# Altium schematic symbol library Schlib1.SchLib: 11 symbols
Pins are listed as number, name and electrical type; pins without a type are passive.

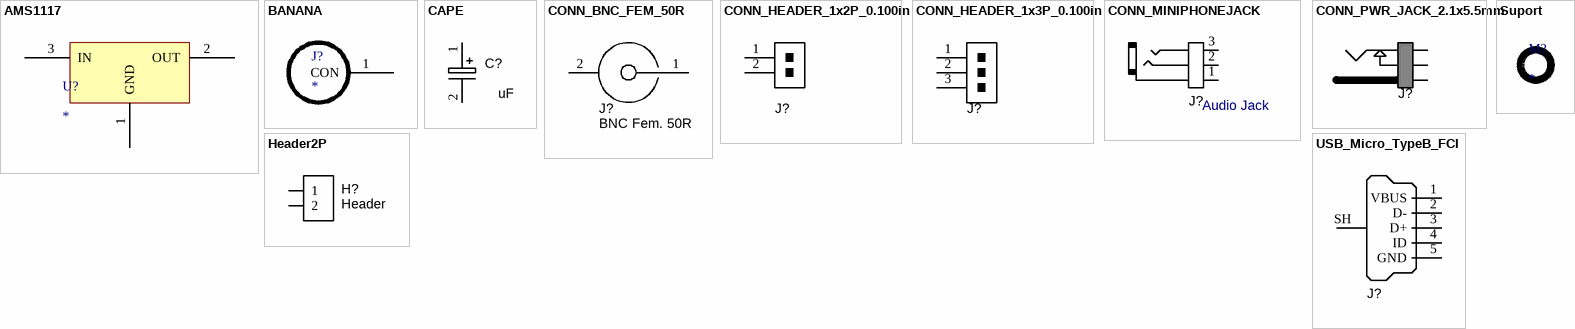
[diagram p0: symbols AMS1117 to USB_Micro_TypeB_FCI]

## AMS1117
designator U?
Voltage Regulator
footprint SOT223 (SOT223 /SC-73)
pins: 1 GND, 2 OUT, 3 IN

## BANANA
designator J?
Female Connector
footprint Banana (Female)
pins: 1 CON

## CAPE
designator C?, comment uF
Value: uF
footprint Capacitor_E
pins: 1, 2

## CONN_BNC_FEM_50R
designator J?, comment BNC Fem. 50R
Connector BNC 50 Ohm right-angle PCB mounted; Impedance: 50 Ohm; Ratings: 9400pF; 1500V; SCDType: undef; Category: Connectors; Mounting Type: Through Hole; ComponentLink1URL: http://www.te.com/commerce/DocumentDelivery/DDEController?Action=srchrtrv&DocNm=5413515&DocType=Customer+Drawing&DocLang=English; ComponentLink1Description: TE Datasheet
footprint CONN_BNC
pins: 1, 2

## CONN_HEADER_1x2P_0.100in
designator J?  (value not drawn)
Pin Header, THT, Single-row, 2.54mm pitch; Pitch: 0.100" (2.54mm); Value: Single-row, 3 positions; QtyOverride: 0.1; SCDType: undef; Category: Connectors; Mounting Type: Through Hole; Terminal Block Type: Header, Male Pins, Single; Package / Case: Pin header; 2.54mm pitch
footprint 1x2POS_HEADER (Connector Header, Single-row 3-position, 0.100" pitch)
pins: 1, 2

## CONN_HEADER_1x3P_0.100in
designator J?  (value not drawn)
Pin Header, THT, Single-row, 2.54mm pitch; Manufacturer 1: 3M; Manufacturer Part Number 1: 929647-09-36-I; Pitch: 0.100" (2.54mm); Value: Single-row, 3 positions; QtyOverride: 0.1; SCDType: undef; Category: Connectors; Mounting Type: Through Hole; Terminal Block Type: Header, Male Pins, Single; Package / Case: Pin header; 2.54mm pitch; Supplier 1: Digi-Key; Supplier Part Number 1: 929647-09-36-ND
footprint 1x3POS_HEADER (Connector Header, Single-row 3-position, 0.100" pitch)
pins: 1, 2, 3

## CONN_MINIPHONEJACK
designator J?, comment Audio Jack
Stereo phone jack mini; SCDType: undef; Material: Plastic, metal
footprint CONN_AUDIO
pins: 1 Base, 2 Middle, 3 TIP

## CONN_PWR_JACK_2.1x5.5mm
designator J?
footprint CONN_PWR_JACK_2.1x5.5mm (Power Connector, 2.1mm ID, 5.5mm OD)
pins: 1, 2, 3

## Header2P
designator H?, comment Header  (no BOM)
Header, 2-pin
footprint HDR1X2 (Connector; Header; 2 Position)
pins: 1, 2

## Suport
designator M?
footprint Support

## USB_Micro_TypeB_FCI
designator J?, comment USB Micro Type B (recommended if hand soldering)  (value not drawn)
Connector SMD-THD USB Micro Type B middle mount; Manufacturer 1: FCI; Manufacturer Part Number 1: 10103593-0001LF; SCDType: undef; Package / Case: SMD/THD mid-mount; Supplier 1: Digi-Key; Supplier Part Number 1: 609-4049-1-ND
footprint USB_MICRO-B_v2
pins: 1 VBUS, 2 D-, 3 D+, 4 ID, 5 GND, SH Shell